# Altium footprint library MOvIT-Detect Lib.PcbLib: 26 footprints (part 2 of 2)
Each footprint in its own frame and in the unit in brackets; x right, y up, seen from the top. Pads: shape width x height; smd on the part's side, far side on the other; paste and mask are expansions set on the pad; w line width, h text height; cw(c..) or ccw(c..) is an arc to the next point about the centre after c.
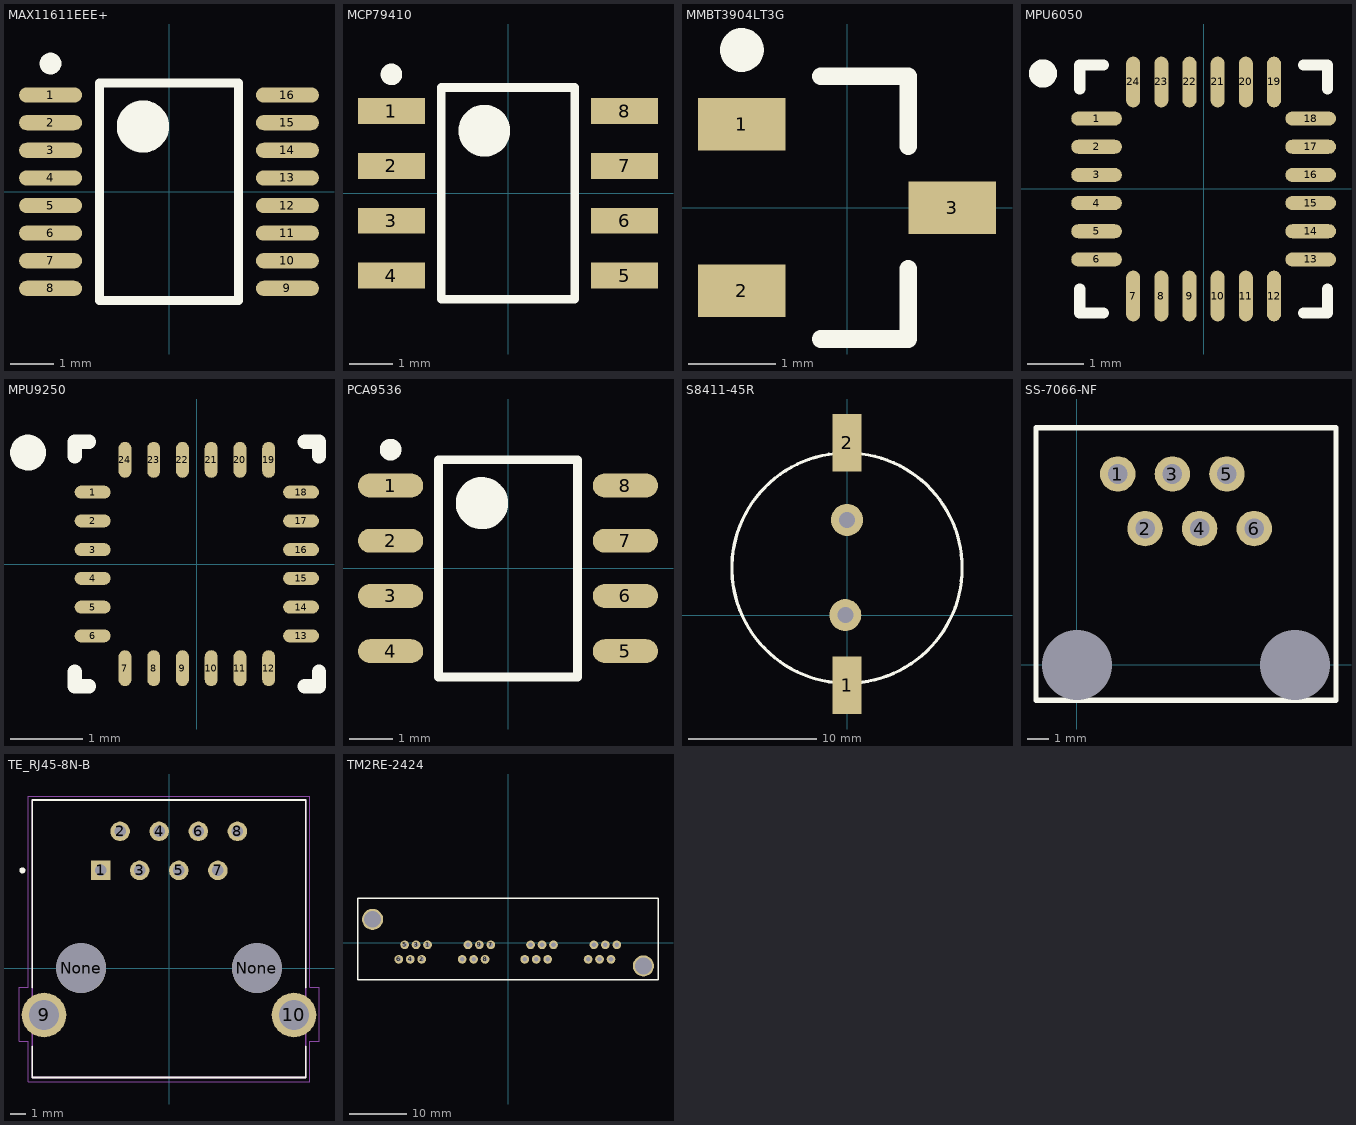
[diagram p1: the footprints below, top view; thin cyan lines are the x and y axes]

## MAX11611EEE+ [mm] "ADC with I2C interface"
height 1.73
pads (16):
  oval 1.45x0.35 smd mask+0.05: 1(-2.725,2.222) 2(-2.725,1.587) 3(-2.725,0.953) 4(-2.725,0.318) 5(-2.725,-0.318) 6(-2.725,-0.953) 7(-2.725,-1.587) 8(-2.725,-2.222) 9(2.725,-2.222) 10(2.725,-1.587) 11(2.725,-0.953) 12(2.725,-0.318) 13(2.725,0.318) 14(2.725,0.953) 15(2.725,1.587) 16(2.725,2.222)
Top Overlay:
  circle w0.6: c-0.6,1.5 r0.3
  circle w0.25: c-2.725,2.947 r0.125
  lines w0.2: -1.6,-2.5 1.6,-2.5 1.6,2.5 -1.6,2.5 -1.6,-2.5
3D body "MAX11611EEE+.step": height 1.73, standoff 0, extent -2.997,-2.5 2.997,2.5

## MCP79410 [mm] "RTC"
height 1.75
pads (8):
  rect 1.55x0.6 smd mask+0.05: 1(-2.7,1.905) 2(-2.7,0.635) 3(-2.7,-0.635) 4(-2.7,-1.905) 5(2.7,-1.905) 6(2.7,-0.635) 7(2.7,0.635) 8(2.7,1.905)
Top Overlay:
  circle w0.6: c-0.55,1.45 r0.3
  circle w0.25: c-2.7,2.755 r0.125
  lines w0.2: -1.55,-2.45 1.55,-2.45 1.55,2.45 -1.55,2.45 -1.55,-2.45
3D body "SOIC127P600X175-8N.step": height 1.75, standoff 0, extent -3.013,-2.45 3.013,2.45

## MMBT3904LT3G [mm] "NPN BJT transistor"
height 1.11
pads (3):
  rect 1x0.6 smd: 1(-1.2,0.95) 2(-1.2,-0.95) 3(1.2,0)
Top Overlay:
  circle w0.25: c-1.2,1.8 r0.125
  lines w0.2: -0.3,-1.5 0.7,-1.5 0.7,-0.7 ; -0.3,1.5 0.7,1.5 0.7,0.7
3D body "MMBT3904LT3G.step": height 1.11, standoff 0, extent -1.3,-1.52 1.3,1.52

## MPU6050 [mm] "IMU"
height 0.95
pads (24):
  oval 0.9x0.25 smd mask+0.05: 1(-1.9,1.25) 2(-1.9,0.75) 3(-1.9,0.25) 4(-1.9,-0.25) 5(-1.9,-0.75) 6(-1.9,-1.25) 13(1.9,-1.25) 14(1.9,-0.75) 15(1.9,-0.25) 16(1.9,0.25) 17(1.9,0.75) 18(1.9,1.25)
  oval 0.25x0.9 smd mask+0.05: 7(-1.25,-1.9) 8(-0.75,-1.9) 9(-0.25,-1.9) 10(0.25,-1.9) 11(0.75,-1.9) 12(1.25,-1.9) 19(1.25,1.9) 20(0.75,1.9) 21(0.25,1.9) 22(-0.25,1.9) 23(-0.75,1.9) 24(-1.25,1.9)
Top Overlay:
  circle w0.25: c-2.85,2.05 r0.125
  lines w0.2: -2.2,-1.775 -2.2,-2.2 -1.775,-2.2 ; -2.2,1.775 -2.2,2.2 -1.775,2.2 ; 1.775,-2.2 2.2,-2.2 2.2,-1.775 ; 1.775,2.2 2.2,2.2 2.2,1.775
3D body "User Library-mpu-6050_qfn-24.step": height 0.88, standoff -0.02, extent -2.02,-2.033 2.02,2.007

## MPU9250 [mm] "IMU"
height 1.05
pads (24):
  oval 0.5x0.18 smd mask+0.05: 1(-1.45,1) 2(-1.45,0.6) 3(-1.45,0.2) 4(-1.45,-0.2) 5(-1.45,-0.6) 6(-1.45,-1) 13(1.45,-1) 14(1.45,-0.6) 15(1.45,-0.2) 16(1.45,0.2) 17(1.45,0.6) 18(1.45,1)
  oval 0.18x0.5 smd mask+0.05: 7(-1,-1.45) 8(-0.6,-1.45) 9(-0.2,-1.45) 10(0.2,-1.45) 11(0.6,-1.45) 12(1,-1.45) 19(1,1.45) 20(0.6,1.45) 21(0.2,1.45) 22(-0.2,1.45) 23(-0.6,1.45) 24(-1,1.45)
Top Overlay:
  circle w0.25: c-2.35,1.55 r0.125
  lines w0.2: -1.7,-1.5 -1.7,-1.7 -1.5,-1.7 ; -1.7,1.5 -1.7,1.7 -1.5,1.7 ; 1.5,-1.7 1.7,-1.7 1.7,-1.5 ; 1.5,1.7 1.7,1.7 1.7,1.5
3D body "User Library-MPU9250.step": height 1, standoff -0.05, extent -1.51,-1.51 1.51,1.51

## PCA9536 [mm] "IO expander"
height 1.75
pads (8):
  oval 1.5x0.55 smd mask+0.05: 1(-2.7,1.905) 2(-2.7,0.635) 3(-2.7,-0.635) 4(-2.7,-1.905) 5(2.7,-1.905) 6(2.7,-0.635) 7(2.7,0.635) 8(2.7,1.905)
Top Overlay:
  circle w0.25: c-2.7,2.73 r0.125
  circle w0.6: c-0.6,1.5 r0.3
  lines w0.2: -1.6,-2.5 -1.6,2.5 1.6,2.5 1.6,-2.5 -1.6,-2.5
3D body "SOIC-8-1.STEP": height 1.75, standoff 0, extent -3.003,-2.45 2.997,2.45

## S8411-45R [mm] "Battery holder 12mm coin cell"
pads (4):
  rect 2.3x4.5 smd: 1(0,-5.5) 2(0,13.5)
  round 2.5 hole 1.25: ""(-0.127,0) ""(0,7.45)
Top Overlay:
  circle w0.254: c0,3.683 r9.018
3D body "s8411-45r_asm.STEP": height 4.25, standoff -1, extent -7.366,-5.207 7.383,13.993

## SS-7066-NF [mil]
pads (8):
  round 65 hole 36: 1(75,350) 2(125,250) 3(175,350) 4(225,250) 5(275,350) 6(325,250)
  round 0 hole 128: ""(0,0) ""(400,0)
Top Overlay:
  lines w10: -75,-65 475,-65 475,435 -75,435 -75,-65
3D body "STEP-615006141121-rev1.stp": height 465.55, standoff -123.03, extent -54.84,-309.33 464.85,399.33

## TE_RJ45-8N-B [mm]
pads (12):
  rect 1.268x1.268 hole 0.76: 1(-4.445,6.35)
  round 1.268 hole 0.76: 2(-3.175,8.89) 3(-1.905,6.35) 4(-0.635,8.89) 5(0.635,6.35) 6(1.905,8.89) 7(3.175,6.35) 8(4.445,8.89)
  round 2.895 hole 1.93: 9(-8.125,-3.05) 10(8.125,-3.05)
  round 3.25 hole 3.25 unplated: None(-5.715,0) None(5.715,0)
Top Overlay:
  circle w0.2: c-9.53,6.35 r0.1
  lines w0.127: -8.89,-5.08 -8.89,-7.11 8.89,-7.11 8.89,-5.08 ; -8.89,-1.27 -8.89,10.92 8.89,10.92 8.89,-1.27
Mechanical 1:
  circle w0.2: c-4.445,6.35 r0.1
  lines w0.127: -8.89,-7.11 -8.89,10.92 8.89,10.92 8.89,-7.11 -8.89,-7.11
Mechanical 4:
  lines w0.05: -9.75,-4.75 -9.14,-4.75 -9.14,-7.38 9.14,-7.38 9.14,-4.75 9.75,-4.75 9.75,-1.25 9.14,-1.25 9.14,11.16 -9.14,11.16 -9.14,-1.25 -9.75,-1.25 -9.75,-4.75
3D body "rj45.stp": height 12.36, standoff -4.15, extent -8.89,-7.798 8.89,10.236

## TM2RE-2424 [mil]
pads (26):
  round 60 hole 32: 1(-552.6,-15) 2(-592.6,-115) 3(-631.3,-15) 4(-671.3,-115) 5(-710,-15) 6(-750,-115) 7(-117.6,-15) 8(-157.6,-115) 9(-196.3,-15) 10(-236.3,-115) 11(-275,-15) 12(-315,-115) 13(312.4,-15) 14(272.4,-115) 15(233.7,-15) 16(193.7,-115) 17(155,-15) 18(115,-115) 19(747.4,-15) 20(707.4,-115) 21(668.7,-15) 22(628.7,-115) 23(590,-15) 24(550,-115)
  round 145 hole 115: ""(-930,160) ""(930,-160)
Top Overlay:
  lines w10: -1030,-255 1030,-255 1030,305 -1030,305 -1030,-255
3D body "TM2RE-2424.stp": height 629.92, standoff -237.8, extent -988.19,-296.3 988.19,310